# Altium footprint library HBridgeLib.PcbLib: 1 footprints
Each footprint in its own frame and in the unit in brackets; x right, y up, seen from the top. Pads: shape width x height; smd on the part's side, far side on the other; paste and mask are expansions set on the pad; w line width, h text height; cw(c..) or ccw(c..) is an arc to the next point about the centre after c.
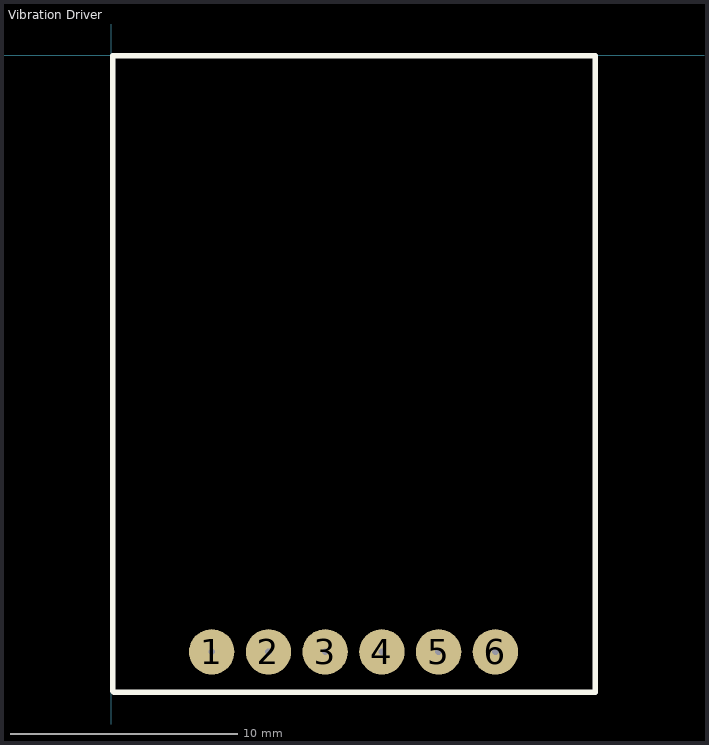
[diagram p0: the footprint, top view; thin cyan lines are the x and y axes]

## Vibration Driver [mm] "Doble puente H para motores de vibracion"
pads (6):
  round 2 hole 0.3: 1(4.438,-26.289) 2(6.938,-26.289) 3(9.438,-26.289) 4(11.938,-26.289) 5(14.438,-26.289) 6(16.938,-26.289)
Top Overlay:
  lines w0.254: 11.684,-28.067 21.209,-28.067 ; 0.081,-28.021 0.127,-28.067 21.336,-28.067 21.336,-0.021 0.081,-0.021 0.081,-28.021